# Altium schematic symbol library DAC_SYMBOL.SchLib: 1 symbol
Pins are listed as number, name and electrical type; pins without a type are passive.

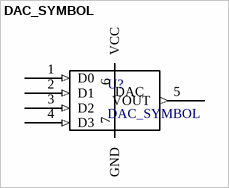
[diagram p0: symbol DAC_SYMBOL]

## DAC_SYMBOL
designator U?
DAC symbol
pins: 1 D0 (in), 2 D1 (in), 3 D2 (in), 4 D3 (in), 5 VOUT (out), 6 VCC (power), 7 GND (power)
text: DAC